# Altium footprint library Leadless.PcbLib: 5 footprints
Each footprint in its own frame and in the unit in brackets; x right, y up, seen from the top. Pads: shape width x height; smd on the part's side, far side on the other; paste and mask are expansions set on the pad; w line width, h text height; cw(c..) or ccw(c..) is an arc to the next point about the centre after c.
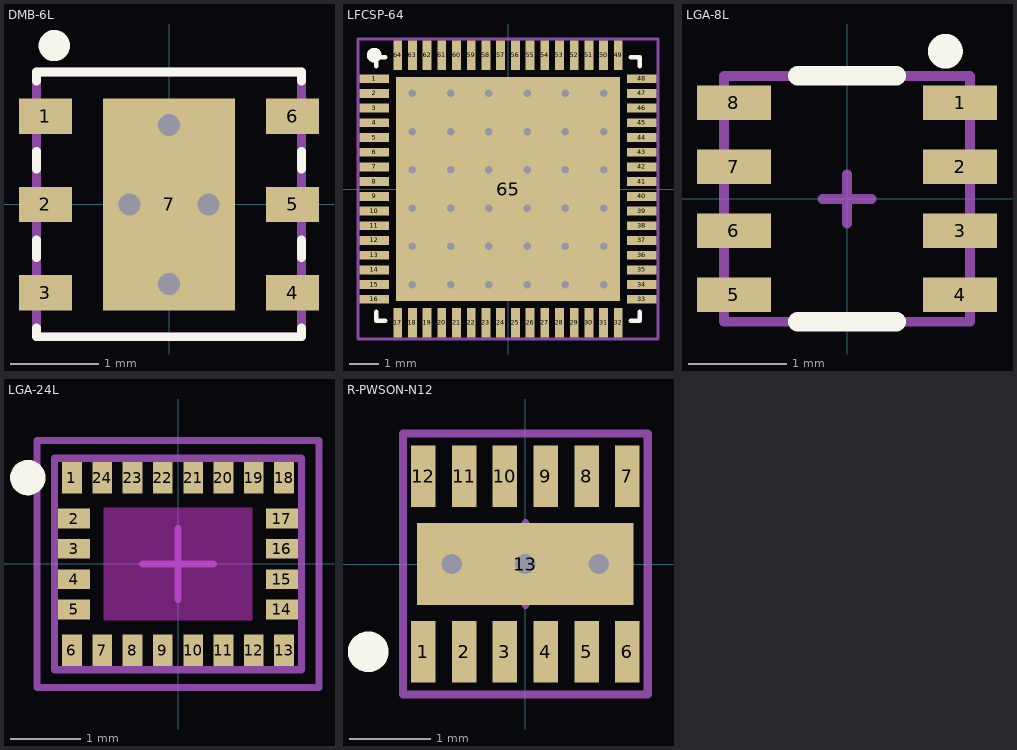
[diagram p0: the footprints below, top view; thin cyan lines are the x and y axes]

## DMB-6L [mm] "DMB, 6-leads"
height 1
pads (7):
  rect 0.6x0.4 smd: 1(-1.4,1) 2(-1.4,0) 3(-1.4,-1) 4(1.4,-1) 5(1.4,0) 6(1.4,1)
  rect 1.5x2.4 smd paste-1.2: 7(0,0)
via 0,-0.9 diameter 0.6 hole 0.25
via 0,0.9 diameter 0.6 hole 0.25
via 0.45,0 diameter 0.6 hole 0.25
via -0.45,0 diameter 0.6 hole 0.25
Top Overlay:
  circle w0.254: c-1.3,1.8 r0.05
  lines w0.1: -1.5,-1.4 -1.5,-1.5 1.5,-1.5 1.5,-1.4 ; -1.5,-0.6 -1.5,-0.4 ; -1.5,0.4 -1.5,0.6 ; -1.5,1.4 -1.5,1.5 1.5,1.5 1.5,1.4 ; 1.5,-0.6 1.5,-0.4 ; 1.5,0.4 1.5,0.6
Top Paste:
  rectangle: -0.69,-1.16 0.69,-0.1
  rectangle: -0.69,0.1 0.69,1.16
Mechanical 11:
  lines w0.1: -0.25,0 0.25,0 ; 0,-0.25 0,0.25 ; -1.5,-1.5 1.5,-1.5 1.5,1.5 -1.5,1.5 -1.5,-1.5

## LFCSP-64 [mm]
pads (65):
  rect 1x0.3 smd: 1(-4.55,3.75) 2(-4.55,3.25) 3(-4.55,2.75) 4(-4.55,2.25) 5(-4.55,1.75) 6(-4.55,1.25) 7(-4.55,0.75) 8(-4.55,0.25) 9(-4.55,-0.25) 10(-4.55,-0.75) 11(-4.55,-1.25) 12(-4.55,-1.75) 13(-4.55,-2.25) 14(-4.55,-2.75) 15(-4.55,-3.25) 16(-4.55,-3.75) 33(4.55,-3.75) 34(4.55,-3.25) 35(4.55,-2.75) 36(4.55,-2.25) 37(4.55,-1.75) 38(4.55,-1.25) 39(4.55,-0.75) 40(4.55,-0.25) 41(4.55,0.25) 42(4.55,0.75) 43(4.55,1.25) 44(4.55,1.75) 45(4.55,2.25) 46(4.55,2.75) 47(4.55,3.25) 48(4.55,3.75)
  rect 0.3x1 smd: 17(-3.75,-4.55) 18(-3.25,-4.55) 19(-2.75,-4.55) 20(-2.25,-4.55) 21(-1.75,-4.55) 22(-1.25,-4.55) 23(-0.75,-4.55) 24(-0.25,-4.55) 25(0.25,-4.55) 26(0.75,-4.55) 27(1.25,-4.55) 28(1.75,-4.55) 29(2.25,-4.55) 30(2.75,-4.55) 31(3.25,-4.55) 32(3.75,-4.55) 49(3.75,4.55) 50(3.25,4.55) 51(2.75,4.55) 52(2.25,4.55) 53(1.75,4.55) 54(1.25,4.55) 55(0.75,4.55) 56(0.25,4.55) 57(-0.25,4.55) 58(-0.75,4.55) 59(-1.25,4.55) 60(-1.75,4.55) 61(-2.25,4.55) 62(-2.75,4.55) 63(-3.25,4.55) 64(-3.75,4.55)
  rect 7.6x7.6 smd paste-3.787: 65(0,0)
via -1.95,-3.25 diameter 0.6 hole 0.25
via -1.95,-1.95 diameter 0.6 hole 0.25
via -3.25,-1.95 diameter 0.6 hole 0.25
via -3.25,-0.65 diameter 0.6 hole 0.25
via -1.95,-0.65 diameter 0.6 hole 0.25
via -1.95,0.65 diameter 0.6 hole 0.25
via -3.25,0.65 diameter 0.6 hole 0.25
via -3.25,1.95 diameter 0.6 hole 0.25
via -1.95,1.95 diameter 0.6 hole 0.25
via -0.65,1.95 diameter 0.6 hole 0.25
via -0.65,0.65 diameter 0.6 hole 0.25
via -0.65,-0.65 diameter 0.6 hole 0.25
via -0.65,-1.95 diameter 0.6 hole 0.25
via -0.65,-3.25 diameter 0.6 hole 0.25
via 0.65,-3.25 diameter 0.6 hole 0.25
via 0.65,-1.95 diameter 0.6 hole 0.25
via 0.65,-0.65 diameter 0.6 hole 0.25
via 0.65,0.65 diameter 0.6 hole 0.25
via 0.65,1.95 diameter 0.6 hole 0.25
via 1.95,1.95 diameter 0.6 hole 0.25
via 1.95,0.65 diameter 0.6 hole 0.25
via 1.95,-0.65 diameter 0.6 hole 0.25
via 1.95,-1.95 diameter 0.6 hole 0.25
via 1.95,-3.25 diameter 0.6 hole 0.25
via 3.25,-1.95 diameter 0.6 hole 0.25
via 3.25,-0.65 diameter 0.6 hole 0.25
via 3.25,0.65 diameter 0.6 hole 0.25
via 3.25,1.95 diameter 0.6 hole 0.25
via 1.95,3.25 diameter 0.6 hole 0.25
via 0.65,3.25 diameter 0.6 hole 0.25
via -0.65,3.25 diameter 0.6 hole 0.25
via -1.95,3.25 diameter 0.6 hole 0.25
via 3.25,-3.25 diameter 0.6 hole 0.25
via 3.25,3.25 diameter 0.6 hole 0.25
via -3.25,-3.25 diameter 0.6 hole 0.25
via -3.25,3.25 diameter 0.6 hole 0.25
Top Overlay:
  circle w0.25: c-4.55,4.55 r0.125
  lines w0.16: -4.475,-4.175 -4.475,-4.475 -4.175,-4.475 ; -4.475,4.175 -4.475,4.475 -4.175,4.475 ; 4.175,-4.475 4.475,-4.475 4.475,-4.175 ; 4.175,4.475 4.475,4.475 4.475,4.175
Top Paste:
  region: 3.7,-2.38 2.38,-2.38 2.38,-3.7 3.7,-3.7
  region: 3.7,-0.86 2.38,-0.86 2.38,-2.18 3.7,-2.18
  region: 3.7,0.66 2.38,0.66 2.38,-0.66 3.7,-0.66
  region: 3.7,2.18 2.38,2.18 2.38,0.86 3.7,0.86
  region: 3.7,3.7 2.38,3.7 2.38,2.38 3.7,2.38
  region: 2.18,-2.38 0.86,-2.38 0.86,-3.7 2.18,-3.7
  region: 2.18,-0.86 0.86,-0.86 0.86,-2.18 2.18,-2.18
  region: 2.18,0.66 0.86,0.66 0.86,-0.66 2.18,-0.66
  region: 2.18,2.18 0.86,2.18 0.86,0.86 2.18,0.86
  region: 2.18,3.7 0.86,3.7 0.86,2.38 2.18,2.38
  region: 0.66,-2.38 -0.66,-2.38 -0.66,-3.7 0.66,-3.7
  region: 0.66,-0.86 -0.66,-0.86 -0.66,-2.18 0.66,-2.18
  region: 0.66,0.66 -0.66,0.66 -0.66,-0.66 0.66,-0.66
  region: 0.66,2.18 -0.66,2.18 -0.66,0.86 0.66,0.86
  region: 0.66,3.7 -0.66,3.7 -0.66,2.38 0.66,2.38
  region: -0.86,-2.38 -2.18,-2.38 -2.18,-3.7 -0.86,-3.7
  region: -0.86,-0.86 -2.18,-0.86 -2.18,-2.18 -0.86,-2.18
  region: -0.86,0.66 -2.18,0.66 -2.18,-0.66 -0.86,-0.66
  region: -0.86,2.18 -2.18,2.18 -2.18,0.86 -0.86,0.86
  region: -0.86,3.7 -2.18,3.7 -2.18,2.38 -0.86,2.38
  region: -2.38,-2.38 -3.7,-2.38 -3.7,-3.7 -2.38,-3.7
  region: -2.38,-0.86 -3.7,-0.86 -3.7,-2.18 -2.38,-2.18
  region: -2.38,0.66 -3.7,0.66 -3.7,-0.66 -2.38,-0.66
  region: -2.38,2.18 -3.7,2.18 -3.7,0.86 -2.38,0.86
  region: -2.38,3.7 -3.7,3.7 -3.7,2.38 -2.38,2.38
Mechanical 11:
  lines w0.1: -5.1,-5.1 5.1,-5.1 5.1,5.1 -5.1,5.1 -5.1,-5.1
Mechanical 15:
  lines w0.1: -0.5,0 0.5,0 ; 0,-0.5 0,0.5
3D body "LFCSP-64.stp": height 0.97, standoff 0, extent -4.551,-4.551 4.551,4.551

## LGA-8L [mm] "LGA, 8-Leads"
height 1
pads (8):
  rect 0.75x0.35 smd: 1(1.15,0.975) 2(1.15,0.325) 3(1.15,-0.325) 4(1.15,-0.975) 5(-1.15,-0.975) 6(-1.15,-0.325) 7(-1.15,0.325) 8(-1.15,0.975)
Top Overlay:
  circle w0.254: c1,1.5 r0.05
  lines w0.2: -0.5,-1.25 0.5,-1.25 ; -0.5,1.25 0.5,1.25
Mechanical 11:
  lines w0.1: -0.25,0 0.25,0 ; 0,-0.25 0,0.25 ; -1.25,-1.25 1.25,-1.25 1.25,1.25 -1.25,1.25 -1.25,-1.25

## LGA-24L [mm] "LGA, 24-Leads, Body 3.50x3.00mmx1.03mm, Pitch 0.43mm"
height 1.03
pads (24):
  rect 0.28x0.45 smd: 1(-1.505,1.225) 6(-1.505,-1.225) 7(-1.075,-1.225) 8(-0.645,-1.225) 9(-0.215,-1.225) 10(0.215,-1.225) 11(0.645,-1.225) 12(1.075,-1.225) 13(1.505,-1.225) 18(1.505,1.225) 19(1.075,1.225) 20(0.645,1.225) 21(0.215,1.225) 22(-0.215,1.225) 23(-0.645,1.225) 24(-1.075,1.225)
  rect 0.45x0.28 smd: 2(-1.475,0.645) 3(-1.475,0.215) 4(-1.475,-0.215) 5(-1.475,-0.645) 14(1.475,-0.645) 15(1.475,-0.215) 16(1.475,0.215) 17(1.475,0.645)
Top Layer keep-out:
  region: -1.05,0.8 1.05,0.8 1.05,-0.8 -1.05,-0.8
Top Overlay:
  circle w0.25: c-2.13,1.225 r0.125
Mechanical 13:
  lines w0.1: -1.75,-1.5 1.75,-1.5 1.75,1.5 -1.75,1.5 -1.75,-1.5
Mechanical 15:
  lines w0.1: -0.5,0 0.5,0 ; 0,-0.5 0,0.5 ; -2,-1.75 2,-1.75 2,1.75 -2,1.75 -2,-1.75
3D body: height 1.03, standoff 0.13, extent -1.75,-1.5 1.75,1.5

## R-PWSON-N12 [mm]
height 0.8
pads (13):
  rect 0.3x0.75 smd paste+0: 1(-1.25,-1.075) 2(-0.75,-1.075) 3(-0.25,-1.075) 4(0.25,-1.075) 5(0.75,-1.075) 6(1.25,-1.075) 7(1.25,1.075) 8(0.75,1.075)
  rect 0.3x0.75 smd: 9(0.25,1.075) 10(-0.25,1.075) 11(-0.75,1.075) 12(-1.25,1.075)
  rect 2.65x1 smd paste-0.5: 13(0,0)
via 0.9,0 diameter 0.6 hole 0.25
via -0.9,0 diameter 0.6 hole 0.25
via 0,0 diameter 0.6 hole 0.25
Top Overlay:
  circle w0.25: c-1.925,-1.075 r0.125
Top Paste:
  region: 0.55,-0.45 1.25,-0.45 1.25,0.45 0.55,0.45
  region: -1.25,-0.45 -0.55,-0.45 -0.55,0.45 -1.25,0.45
  region: -0.35,-0.45 0.35,-0.45 0.35,0.45 -0.35,0.45
Mechanical 11:
  lines w0.1: -1.5,-1.6 -1.5,1.6 1.5,1.6 1.5,-1.6 -1.5,-1.6
Mechanical 15:
  lines w0.1: -0.5,0 0.5,0 ; 0,-0.5 0,0.5
3D body "R-PWSON-N12.step": height 0.8, standoff -0.02, extent -1.5,-1 1.5,1